# Altium integrated library Diodes - TVS.IntLib: 5379 symbols (part 98 of 122)
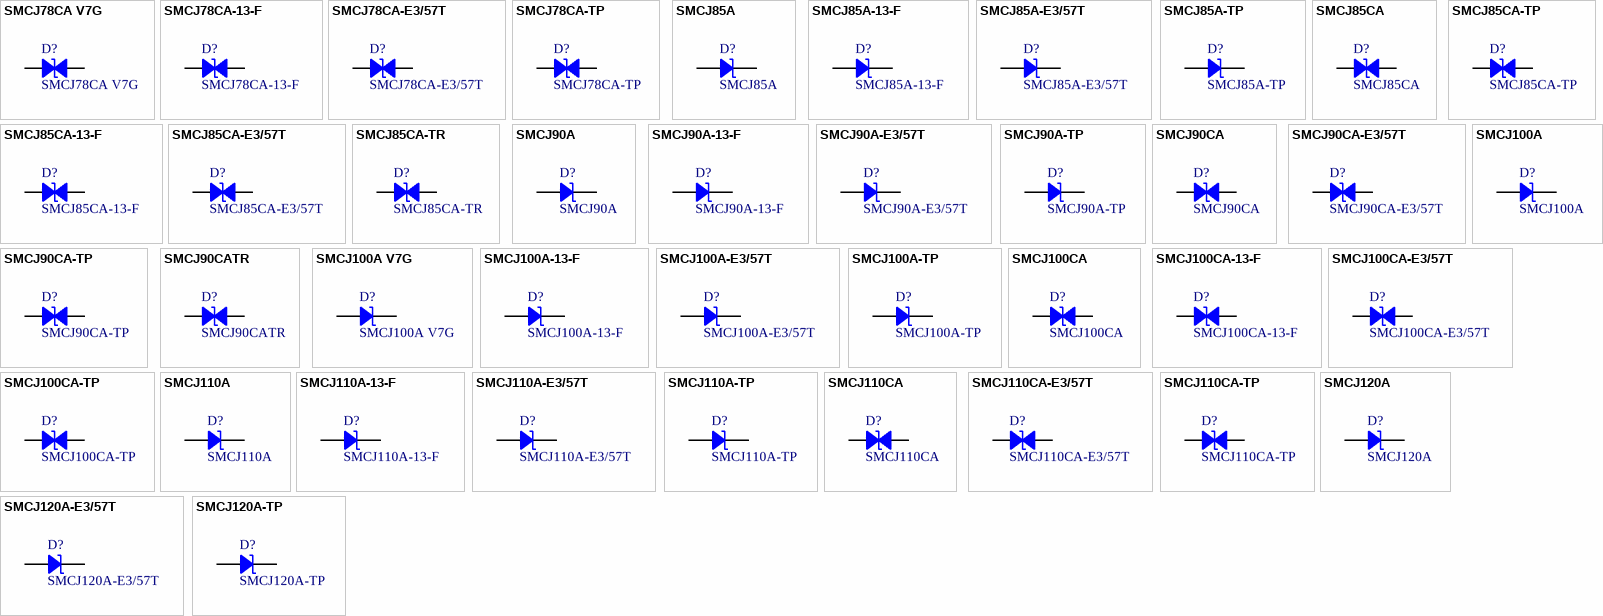
[diagram p231: symbols SMCJ78CA V7G to SMCJ120A-TP]

## SMCJ100A V7G
designator D?
TVS DIODE 100V 162V DO214AB; Manufacturer: Taiwan Semiconductor Corporation; Current - Peak Pulse (10/1000µs): 9.7A; Power Line Protection: No; Power - Peak Pulse: 1500W (1.5kW); Type: Zener; Unidirectional Channels: 1; Voltage - Breakdown (Min): 111V; Part Number: SMCJ100A V7G; Applications: Telecom; ComponentLink1Description: Datasheet; ComponentLink1URL: https://www.taiwansemi.com/products/datasheet/SMCJ%20SERIES_Q1812.pdf; ComponentLink2Description: DigiKey Link; ComponentLink2URL: http://digikey.com/product-detail/en/taiwan-semiconductor-corporation/SMCJ100A-V7G/SMCJ100AV7GCT-ND/7944443; LastUpdated: 9/2/2020 1:20:05 AM; Lifecycle Status: Active; Minimum Order: 1; Mounting Type: Surface Mount; Operating Temperature: -55°C ~ 150°C (TJ); Package / Case: DO-214AB, SMC; Packaging: TapeAndReel; PartId: 6891; Part Status: Active; Price: 0.41; Series: SMCJ; Supplier 1: DigiKey; Supplier Part Number 1: SMCJ100AV7GCT-ND; Supplier Device Package: DO-214AB (SMC); Voltage - Clamping (Max) @ Ipp: 162V; Voltage - Reverse Standoff (Typ): 100V
footprint DO214AB SMC
pins: 1, 2

## SMCJ100A-13-F
designator D?
TVS DIODE 100V 162V SMC; Manufacturer: Diodes Incorporated; Current - Peak Pulse (10/1000µs): 9.3A; Power Line Protection: No; Power - Peak Pulse: 1500W (1.5kW); Type: Zener; Unidirectional Channels: 1; Voltage - Breakdown (Min): 111V; Part Number: SMCJ100A-13-F; Applications: General Purpose; ComponentLink1Description: Datasheet; ComponentLink1URL: https://www.diodes.com/assets/Datasheets/ds19003.pdf; ComponentLink2Description: DigiKey Link; ComponentLink2URL: http://digikey.com/product-detail/en/diodes-incorporated/SMCJ100A-13-F/SMCJ100A-FDICT-ND/765472; LastUpdated: 9/2/2020 1:20:08 AM; Lifecycle Status: Active; Minimum Order: 1; Mounting Type: Surface Mount; Operating Temperature: -55°C ~ 150°C (TJ); Package / Case: DO-214AB, SMC; Packaging: TapeAndReel; PartId: 7254; Part Status: Active; Price: 0.27; Series: -; Supplier 1: DigiKey; Supplier Part Number 1: SMCJ100A-FDICT-ND; Supplier Device Package: SMC; Voltage - Clamping (Max) @ Ipp: 162V; Voltage - Reverse Standoff (Typ): 100V
footprint DO214AB SMC
pins: 1, 2

## SMCJ100A-E3/57T
designator D?
TVS DIODE 100V 162V DO214AB; Manufacturer: Vishay Semiconductor Diodes Division; Current - Peak Pulse (10/1000µs): 9.3A; Power Line Protection: No; Power - Peak Pulse: 1500W (1.5kW); Type: Zener; Unidirectional Channels: 1; Voltage - Breakdown (Min): 111V; Part Number: SMCJ100A-E3/57T; Applications: General Purpose; ComponentLink1Description: Datasheet; ComponentLink1URL: http://www.vishay.com/docs/88394/smcj.pdf; ComponentLink2Description: DigiKey Link; ComponentLink2URL: http://digikey.com/product-detail/en/vishay-semiconductor-diodes-division/SMCJ100A-E3-57T/SMCJ100A-E3-57TGICT-ND/3306574; LastUpdated: 9/2/2020 1:20:02 AM; Lifecycle Status: Active; Minimum Order: 1; Mounting Type: Surface Mount; Operating Temperature: -55°C ~ 150°C (TJ); Package / Case: DO-214AB, SMC; Packaging: TapeAndReel; PartId: 6572; Part Status: Active; Price: 0.25; Series: TransZorb®; Supplier 1: DigiKey; Supplier Part Number 1: SMCJ100A-E3/57TGICT-ND; Supplier Device Package: DO-214AB (SMCJ); Voltage - Clamping (Max) @ Ipp: 162V; Voltage - Reverse Standoff (Typ): 100V
footprint DO214AB SMC
pins: 1, 2

## SMCJ100A-TP
designator D?
TVS DIODE 100V 162V DO214AB; Manufacturer: Micro Commercial Co; Current - Peak Pulse (10/1000µs): 9.3A; Power Line Protection: No; Power - Peak Pulse: 1500W (1.5kW); Type: Zener; Unidirectional Channels: 1; Voltage - Breakdown (Min): 111V; Part Number: SMCJ100A-TP; Applications: General Purpose; ComponentLink1Description: Datasheet; ComponentLink1URL: https://www.mccsemi.com/pdf/Products/SMCJ5.0~SMCJ440CA(DO-214AB).pdf; ComponentLink2Description: DigiKey Link; ComponentLink2URL: http://digikey.com/product-detail/en/micro-commercial-co/SMCJ100A-TP/SMCJ100A-TPMSCT-ND/1200799; LastUpdated: 9/2/2020 1:19:59 AM; Lifecycle Status: Active; Minimum Order: 1; Mounting Type: Surface Mount; Operating Temperature: -55°C ~ 175°C (TJ); Package / Case: DO-214AB, SMC; Packaging: TapeAndReel; PartId: 6311; Part Status: Active; Price: 0.20; Series: -; Supplier 1: DigiKey; Supplier Part Number 1: SMCJ100A-TPMSCT-ND; Supplier Device Package: DO-214AB (SMC); Voltage - Clamping (Max) @ Ipp: 162V; Voltage - Reverse Standoff (Typ): 100V
footprint DO214AB SMC
pins: 1, 2

## SMCJ100CA
designator D?
TVS DIODE 100V 162V SMC; Manufacturer: Bourns Inc.; Bidirectional Channels: 1; Current - Peak Pulse (10/1000µs): 9.3A; Power Line Protection: No; Power - Peak Pulse: 1500W (1.5kW); Type: Zener; Voltage - Breakdown (Min): 111V; Part Number: SMCJ100CA; Applications: General Purpose; ComponentLink1Description: Datasheet; ComponentLink1URL: https://www.bourns.com/docs/Product-Datasheets/SMCJ.pdf; ComponentLink2Description: DigiKey Link; ComponentLink2URL: http://digikey.com/product-detail/en/bourns-inc/SMCJ100CA/SMCJ100CABCT-ND/2253606; LastUpdated: 9/2/2020 1:28:02 AM; Lifecycle Status: Active; Minimum Order: 1; Mounting Type: Surface Mount; Operating Temperature: -55°C ~ 150°C (TJ); Package / Case: DO-214AB, SMC; Packaging: TapeAndReel; PartId: 8038; Part Status: Active; Price: 0.27; Series: SMCJ; Supplier 1: DigiKey; Supplier Part Number 1: SMCJ100CABCT-ND; Supplier Device Package: SMC (DO-214AB); Voltage - Clamping (Max) @ Ipp: 162V; Voltage - Reverse Standoff (Typ): 100V
footprint DO214AB SMC
pins: 1, 2

## SMCJ100CA-13-F
designator D?
TVS DIODE 100V 162V SMC; Manufacturer: Diodes Incorporated; Bidirectional Channels: 1; Current - Peak Pulse (10/1000µs): 9.3A; Power Line Protection: No; Power - Peak Pulse: 1500W (1.5kW); Type: Zener; Voltage - Breakdown (Min): 111V; Part Number: SMCJ100CA-13-F; Applications: General Purpose; ComponentLink1Description: Datasheet; ComponentLink1URL: https://www.diodes.com/assets/Datasheets/ds19003.pdf; ComponentLink2Description: DigiKey Link; ComponentLink2URL: http://digikey.com/product-detail/en/diodes-incorporated/SMCJ100CA-13-F/SMCJ100CA-FDICT-ND/816101; LastUpdated: 9/2/2020 1:28:09 AM; Lifecycle Status: Active; Minimum Order: 1; Mounting Type: Surface Mount; Operating Temperature: -55°C ~ 150°C (TJ); Package / Case: DO-214AB, SMC; Packaging: TapeAndReel; PartId: 8762; Part Status: Active; Price: 0.30; Series: -; Supplier 1: DigiKey; Supplier Part Number 1: SMCJ100CA-FDICT-ND; Supplier Device Package: SMC; Voltage - Clamping (Max) @ Ipp: 162V; Voltage - Reverse Standoff (Typ): 100V
footprint DO214AB SMC
pins: 1, 2

## SMCJ100CA-E3/57T
designator D?
TVS DIODE 100V 162V DO214AB; Manufacturer: Vishay Semiconductor Diodes Division; Bidirectional Channels: 1; Current - Peak Pulse (10/1000µs): 9.3A; Power Line Protection: No; Power - Peak Pulse: 1500W (1.5kW); Type: Zener; Voltage - Breakdown (Min): 111V; Part Number: SMCJ100CA-E3/57T; Applications: General Purpose; ComponentLink1Description: Datasheet; ComponentLink1URL: http://www.vishay.com/docs/88394/smcj.pdf; ComponentLink2Description: DigiKey Link; ComponentLink2URL: http://digikey.com/product-detail/en/vishay-semiconductor-diodes-division/SMCJ100CA-E3-57T/SMCJ100CA-E3-57TGICT-ND/3306575; LastUpdated: 9/2/2020 1:28:06 AM; Lifecycle Status: Active; Minimum Order: 1; Mounting Type: Surface Mount; Operating Temperature: -55°C ~ 150°C (TJ); Package / Case: DO-214AB, SMC; Packaging: TapeAndReel; PartId: 8481; Part Status: Active; Price: 0.30; Series: TransZorb®; Supplier 1: DigiKey; Supplier Part Number 1: SMCJ100CA-E3/57TGICT-ND; Supplier Device Package: DO-214AB (SMCJ); Voltage - Clamping (Max) @ Ipp: 162V; Voltage - Reverse Standoff (Typ): 100V
footprint DO214AB SMC
pins: 1, 2

## SMCJ100CA-TP
designator D?
TVS DIODE 100V 162V DO214AB; Manufacturer: Micro Commercial Co; Bidirectional Channels: 1; Current - Peak Pulse (10/1000µs): 9.3A; Power Line Protection: No; Power - Peak Pulse: 1500W (1.5kW); Type: Zener; Voltage - Breakdown (Min): 111V; Part Number: SMCJ100CA-TP; Applications: General Purpose; ComponentLink1Description: Datasheet; ComponentLink1URL: https://www.mccsemi.com/pdf/Products/SMCJ5.0~SMCJ440CA(DO-214AB).pdf; ComponentLink2Description: DigiKey Link; ComponentLink2URL: http://digikey.com/product-detail/en/micro-commercial-co/SMCJ100CA-TP/SMCJ100CA-TPMSCT-ND/1200800; LastUpdated: 9/2/2020 1:28:08 AM; Lifecycle Status: Active; Minimum Order: 1; Mounting Type: Surface Mount; Operating Temperature: -55°C ~ 175°C (TJ); Package / Case: DO-214AB, SMC; Packaging: TapeAndReel; PartId: 8673; Part Status: Active; Price: 0.21; Series: -; Supplier 1: DigiKey; Supplier Part Number 1: SMCJ100CA-TPMSCT-ND; Supplier Device Package: DO-214AB (SMC); Voltage - Clamping (Max) @ Ipp: 162V; Voltage - Reverse Standoff (Typ): 100V
footprint DO214AB SMC
pins: 1, 2

## SMCJ110A
designator D?
TVS DIODE 110V 177V DO214AB; Manufacturer: Littelfuse Inc.; Current - Peak Pulse (10/1000µs): 8.5A; Power Line Protection: No; Power - Peak Pulse: 1500W (1.5kW); Type: Zener; Unidirectional Channels: 1; Voltage - Breakdown (Min): 122V; Part Number: SMCJ110A; Applications: General Purpose; ComponentLink1Description: Datasheet; ComponentLink1URL: https://www.littelfuse.com/products/tvs-diodes/surface-mount/~/media/electronics/datasheets/tvs_diodes/littelfuse_tvs_diode_smcj_datasheet.pdf.pdf; ComponentLink2Description: DigiKey Link; ComponentLink2URL: http://digikey.com/product-detail/en/littelfuse-inc/SMCJ110A/SMCJ110ALFCT-ND/762646; LastUpdated: 9/2/2020 1:19:59 AM; Lifecycle Status: Active; Minimum Order: 1; Mounting Type: Surface Mount; Operating Temperature: -55°C ~ 150°C (TJ); Package / Case: DO-214AB, SMC; Packaging: TapeAndReel; PartId: 6286; Part Status: Active; Price: 0.21; Series: SMCJ; Supplier 1: DigiKey; Supplier Part Number 1: SMCJ110ALFCT-ND; Supplier Device Package: DO-214AB (SMCJ); Voltage - Clamping (Max) @ Ipp: 177V; Voltage - Reverse Standoff (Typ): 110V
footprint DO214AB SMC
pins: 1, 2

## SMCJ110A-13-F
designator D?
TVS DIODE 110V 177V SMC; Manufacturer: Diodes Incorporated; Current - Peak Pulse (10/1000µs): 8.4A; Power Line Protection: No; Power - Peak Pulse: 1500W (1.5kW); Type: Zener; Unidirectional Channels: 1; Voltage - Breakdown (Min): 122V; Part Number: SMCJ110A-13-F; Applications: General Purpose; ComponentLink1Description: Datasheet; ComponentLink1URL: https://www.diodes.com/assets/Datasheets/ds19003.pdf; ComponentLink2Description: DigiKey Link; ComponentLink2URL: http://digikey.com/product-detail/en/diodes-incorporated/SMCJ110A-13-F/SMCJ110A-FDICT-ND/816102; LastUpdated: 9/2/2020 1:20:05 AM; Lifecycle Status: Active; Minimum Order: 1; Mounting Type: Surface Mount; Operating Temperature: -55°C ~ 150°C (TJ); Package / Case: DO-214AB, SMC; Packaging: TapeAndReel; PartId: 6967; Part Status: Active; Price: 0.27; Series: -; Supplier 1: DigiKey; Supplier Part Number 1: SMCJ110A-FDICT-ND; Supplier Device Package: SMC; Voltage - Clamping (Max) @ Ipp: 177V; Voltage - Reverse Standoff (Typ): 110V
footprint DO214AB SMC
pins: 1, 2

## SMCJ110A-E3/57T
designator D?
TVS DIODE 110V 177V DO214AB; Manufacturer: Vishay Semiconductor Diodes Division; Current - Peak Pulse (10/1000µs): 8.5A; Power Line Protection: No; Power - Peak Pulse: 1500W (1.5kW); Type: Zener; Unidirectional Channels: 1; Voltage - Breakdown (Min): 122V; Part Number: SMCJ110A-E3/57T; Applications: General Purpose; ComponentLink1Description: Datasheet; ComponentLink1URL: http://www.vishay.com/docs/88394/smcj.pdf; ComponentLink2Description: DigiKey Link; ComponentLink2URL: http://digikey.com/product-detail/en/vishay-semiconductor-diodes-division/SMCJ110A-E3-57T/SMCJ110A-E3-57TGICT-ND/3306576; LastUpdated: 9/2/2020 1:20:02 AM; Lifecycle Status: Active; Minimum Order: 1; Mounting Type: Surface Mount; Operating Temperature: -55°C ~ 150°C (TJ); Package / Case: DO-214AB, SMC; Packaging: TapeAndReel; PartId: 6573; Part Status: Active; Price: 0.25; Series: TransZorb®; Supplier 1: DigiKey; Supplier Part Number 1: SMCJ110A-E3/57TGICT-ND; Supplier Device Package: DO-214AB (SMCJ); Voltage - Clamping (Max) @ Ipp: 177V; Voltage - Reverse Standoff (Typ): 110V
footprint DO214AB SMC
pins: 1, 2

## SMCJ110A-TP
designator D?
TVS DIODE 110V 177V DO214AB; Manufacturer: Micro Commercial Co; Current - Peak Pulse (10/1000µs): 8.5A; Power Line Protection: No; Power - Peak Pulse: 1500W (1.5kW); Type: Zener; Unidirectional Channels: 1; Voltage - Breakdown (Min): 122V; Part Number: SMCJ110A-TP; Applications: General Purpose; ComponentLink1Description: Datasheet; ComponentLink1URL: https://www.mccsemi.com/pdf/Products/SMCJ5.0~SMCJ440CA(DO-214AB).pdf; ComponentLink2Description: DigiKey Link; ComponentLink2URL: http://digikey.com/product-detail/en/micro-commercial-co/SMCJ110A-TP/SMCJ110A-TPMSCT-ND/1200801; LastUpdated: 9/2/2020 1:19:59 AM; Lifecycle Status: Active; Minimum Order: 1; Mounting Type: Surface Mount; Operating Temperature: -55°C ~ 175°C (TJ); Package / Case: DO-214AB, SMC; Packaging: TapeAndReel; PartId: 6310; Part Status: Active; Price: 0.20; Series: -; Supplier 1: DigiKey; Supplier Part Number 1: SMCJ110A-TPMSCT-ND; Supplier Device Package: DO-214AB (SMC); Voltage - Clamping (Max) @ Ipp: 177V; Voltage - Reverse Standoff (Typ): 110V
footprint DO214AB SMC
pins: 1, 2

## SMCJ110CA
designator D?
TVS DIODE 110V 177V DO214AB; Manufacturer: Littelfuse Inc.; Bidirectional Channels: 1; Current - Peak Pulse (10/1000µs): 8.5A; Power Line Protection: No; Power - Peak Pulse: 1500W (1.5kW); Type: Zener; Voltage - Breakdown (Min): 122V; Part Number: SMCJ110CA; Applications: General Purpose; ComponentLink1Description: Datasheet; ComponentLink1URL: https://www.littelfuse.com/products/tvs-diodes/surface-mount/~/media/electronics/datasheets/tvs_diodes/littelfuse_tvs_diode_smcj_datasheet.pdf.pdf; ComponentLink2Description: DigiKey Link; ComponentLink2URL: http://digikey.com/product-detail/en/littelfuse-inc/SMCJ110CA/SMCJ110CALFCT-ND/762647; LastUpdated: 9/2/2020 1:28:06 AM; Lifecycle Status: Active; Minimum Order: 1; Mounting Type: Surface Mount; Operating Temperature: -55°C ~ 150°C (TJ); Package / Case: DO-214AB, SMC; Packaging: TapeAndReel; PartId: 8494; Part Status: Active; Price: 0.23; Series: SMCJ; Supplier 1: DigiKey; Supplier Part Number 1: SMCJ110CALFCT-ND; Supplier Device Package: DO-214AB (SMCJ); Voltage - Clamping (Max) @ Ipp: 177V; Voltage - Reverse Standoff (Typ): 110V
footprint DO214AB SMC
pins: 1, 2

## SMCJ110CA-E3/57T
designator D?
TVS DIODE 110V 177V DO214AB; Manufacturer: Vishay Semiconductor Diodes Division; Bidirectional Channels: 1; Current - Peak Pulse (10/1000µs): 8.5A; Power Line Protection: No; Power - Peak Pulse: 1500W (1.5kW); Type: Zener; Voltage - Breakdown (Min): 122V; Part Number: SMCJ110CA-E3/57T; Applications: General Purpose; ComponentLink1Description: Datasheet; ComponentLink1URL: http://www.vishay.com/docs/88394/smcj.pdf; ComponentLink2Description: DigiKey Link; ComponentLink2URL: http://digikey.com/product-detail/en/vishay-semiconductor-diodes-division/SMCJ110CA-E3-57T/SMCJ110CA-E3-57TGICT-ND/2413475; LastUpdated: 9/2/2020 1:28:04 AM; Lifecycle Status: Active; Minimum Order: 1; Mounting Type: Surface Mount; Operating Temperature: -55°C ~ 150°C (TJ); Package / Case: DO-214AB, SMC; Packaging: TapeAndReel; PartId: 8179; Part Status: Active; Price: 0.30; Series: TransZorb®; Supplier 1: DigiKey; Supplier Part Number 1: SMCJ110CA-E3/57TGICT-ND; Supplier Device Package: DO-214AB (SMCJ); Voltage - Clamping (Max) @ Ipp: 177V; Voltage - Reverse Standoff (Typ): 110V
footprint DO214AB SMC
pins: 1, 2

## SMCJ110CA-TP
designator D?
TVS DIODE 110V 177V DO214AB; Manufacturer: Micro Commercial Co; Bidirectional Channels: 1; Current - Peak Pulse (10/1000µs): 8.5A; Power Line Protection: No; Power - Peak Pulse: 1500W (1.5kW); Type: Zener; Voltage - Breakdown (Min): 122V; Part Number: SMCJ110CA-TP; Applications: General Purpose; ComponentLink1Description: Datasheet; ComponentLink1URL: https://www.mccsemi.com/pdf/Products/SMCJ5.0~SMCJ440CA(DO-214AB).pdf; ComponentLink2Description: DigiKey Link; ComponentLink2URL: http://digikey.com/product-detail/en/micro-commercial-co/SMCJ110CA-TP/SMCJ110CA-TPMSCT-ND/1200802; LastUpdated: 9/2/2020 1:28:02 AM; Lifecycle Status: Active; Minimum Order: 1; Mounting Type: Surface Mount; Operating Temperature: -55°C ~ 175°C (TJ); Package / Case: DO-214AB, SMC; Packaging: TapeAndReel; PartId: 7971; Part Status: Active; Price: 0.21; Series: -; Supplier 1: DigiKey; Supplier Part Number 1: SMCJ110CA-TPMSCT-ND; Supplier Device Package: DO-214AB (SMC); Voltage - Clamping (Max) @ Ipp: 177V; Voltage - Reverse Standoff (Typ): 110V
footprint DO214AB SMC
pins: 1, 2

## SMCJ120A
designator D?
TVS DIODE 120V 193V SMC; Manufacturer: Taiwan Semiconductor Corporation; Current - Peak Pulse (10/1000µs): 7.8A; Power Line Protection: No; Power - Peak Pulse: 1500W (1.5kW); Type: Zener; Unidirectional Channels: 1; Voltage - Breakdown (Min): 133V; Part Number: SMCJ120A; Applications: General Purpose; ComponentLink1Description: Datasheet; ComponentLink1URL: https://www.taiwansemi.com/products/datasheet/SMCJ%20SERIES_Q1812.pdf; ComponentLink2Description: DigiKey Link; ComponentLink2URL: http://digikey.com/product-detail/en/taiwan-semiconductor-corporation/SMCJ120A/SMCJ120AFSCT-ND/4744709; LastUpdated: 9/2/2020 1:20:02 AM; Lifecycle Status: Active; Minimum Order: 1; Mounting Type: Surface Mount; Package / Case: DO-214AB, SMC; Packaging: TapeAndReel; PartId: 6631; Part Status: Active; Price: 0.23; Series: -; Supplier 1: DigiKey; Supplier Part Number 1: SMCJ120AFSCT-ND; Supplier Device Package: SMC (DO-214AB); Voltage - Clamping (Max) @ Ipp: 193V; Voltage - Reverse Standoff (Typ): 120V
footprint DO214AB SMC
pins: 1, 2

## SMCJ120A-E3/57T
designator D?
TVS DIODE 120V 193V DO214AB; Manufacturer: Vishay Semiconductor Diodes Division; Current - Peak Pulse (10/1000µs): 7.8A; Power Line Protection: No; Power - Peak Pulse: 1500W (1.5kW); Type: Zener; Unidirectional Channels: 1; Voltage - Breakdown (Min): 133V; Part Number: SMCJ120A-E3/57T; Applications: General Purpose; ComponentLink1Description: Datasheet; ComponentLink1URL: http://www.vishay.com/docs/88394/smcj.pdf; ComponentLink2Description: DigiKey Link; ComponentLink2URL: http://digikey.com/product-detail/en/vishay-semiconductor-diodes-division/SMCJ120A-E3-57T/SMCJ120A-E3-57TGICT-ND/3306578; LastUpdated: 9/2/2020 1:20:02 AM; Lifecycle Status: Active; Minimum Order: 1; Mounting Type: Surface Mount; Operating Temperature: -55°C ~ 150°C (TJ); Package / Case: DO-214AB, SMC; Packaging: TapeAndReel; PartId: 6578; Part Status: Active; Price: 0.25; Series: TransZorb®; Supplier 1: DigiKey; Supplier Part Number 1: SMCJ120A-E3/57TGICT-ND; Supplier Device Package: DO-214AB (SMCJ); Voltage - Clamping (Max) @ Ipp: 193V; Voltage - Reverse Standoff (Typ): 120V
footprint DO214AB SMC
pins: 1, 2

## SMCJ120A-TP
designator D?
TVS DIODE 120V 193V DO214AB; Manufacturer: Micro Commercial Co; Current - Peak Pulse (10/1000µs): 7.8A; Power Line Protection: No; Power - Peak Pulse: 1500W (1.5kW); Type: Zener; Unidirectional Channels: 1; Voltage - Breakdown (Min): 133V; Part Number: SMCJ120A-TP; Applications: General Purpose; ComponentLink1Description: Datasheet; ComponentLink1URL: https://www.mccsemi.com/pdf/Products/SMCJ5.0~SMCJ440CA(DO-214AB).pdf; ComponentLink2Description: DigiKey Link; ComponentLink2URL: http://digikey.com/product-detail/en/micro-commercial-co/SMCJ120A-TP/SMCJ120A-TPMSCT-ND/1200803; LastUpdated: 9/2/2020 1:19:59 AM; Lifecycle Status: Active; Minimum Order: 1; Mounting Type: Surface Mount; Operating Temperature: -55°C ~ 175°C (TJ); Package / Case: DO-214AB, SMC; Packaging: TapeAndReel; PartId: 6309; Part Status: Active; Price: 0.20; Series: -; Supplier 1: DigiKey; Supplier Part Number 1: SMCJ120A-TPMSCT-ND; Supplier Device Package: DO-214AB (SMC); Voltage - Clamping (Max) @ Ipp: 193V; Voltage - Reverse Standoff (Typ): 120V
footprint DO214AB SMC
pins: 1, 2

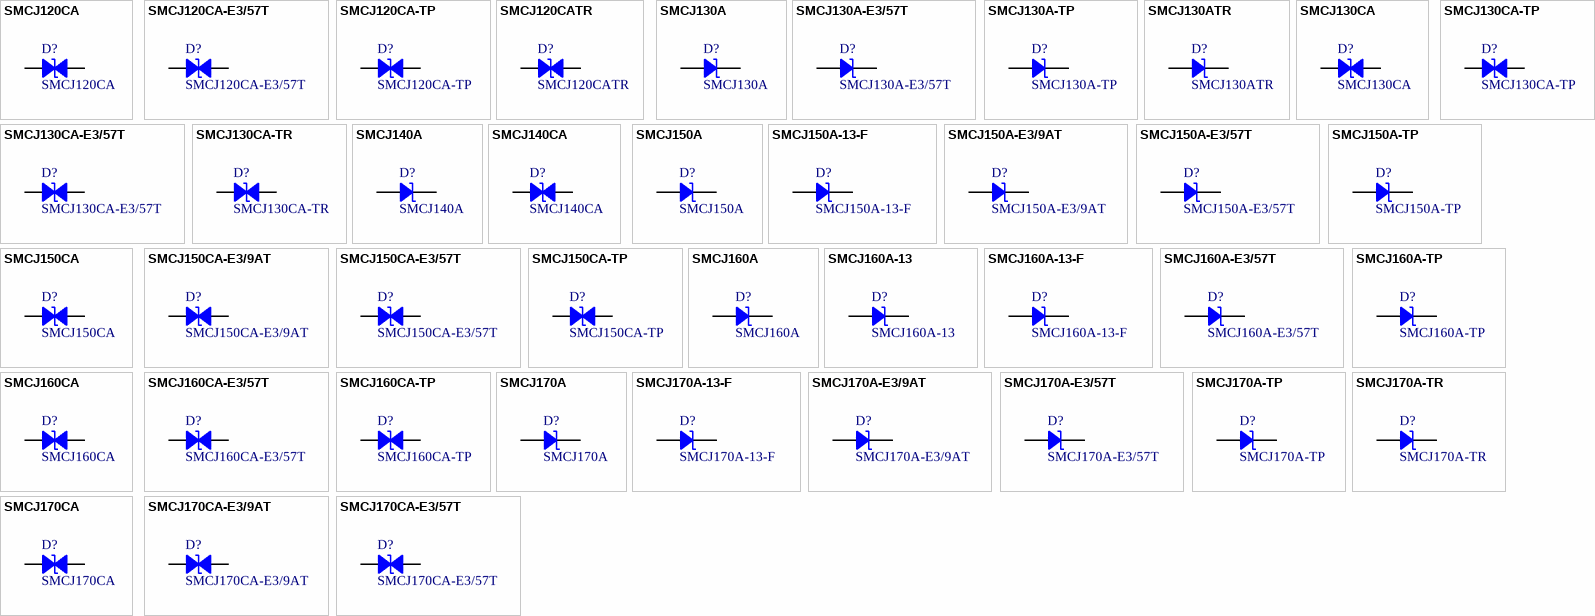
[diagram p108: symbols SMCJ120CA to SMCJ170CA-E3/57T]

## SMCJ120CA
designator D?
TVS DIODE 120V 193V SMC; Manufacturer: Bourns Inc.; Bidirectional Channels: 1; Current - Peak Pulse (10/1000µs): 7.9A; Power Line Protection: No; Power - Peak Pulse: 1500W (1.5kW); Type: Zener; Voltage - Breakdown (Min): 133V; Part Number: SMCJ120CA; Applications: General Purpose; ComponentLink1Description: Datasheet; ComponentLink1URL: https://www.bourns.com/docs/Product-Datasheets/SMCJ.pdf; ComponentLink2Description: DigiKey Link; ComponentLink2URL: http://digikey.com/product-detail/en/bourns-inc/SMCJ120CA/SMCJ120CABCT-ND/2253608; LastUpdated: 9/2/2020 1:28:04 AM; Lifecycle Status: Active; Minimum Order: 1; Mounting Type: Surface Mount; Operating Temperature: -55°C ~ 150°C (TJ); Package / Case: DO-214AB, SMC; Packaging: TapeAndReel; PartId: 8168; Part Status: Active; Price: 0.23; Series: SMCJ; Supplier 1: DigiKey; Supplier Part Number 1: SMCJ120CABCT-ND; Supplier Device Package: SMC (DO-214AB); Voltage - Clamping (Max) @ Ipp: 193V; Voltage - Reverse Standoff (Typ): 120V
footprint DO214AB SMC
pins: 1, 2

## SMCJ120CA-E3/57T
designator D?
TVS DIODE 120V 193V DO214AB; Manufacturer: Vishay Semiconductor Diodes Division; Bidirectional Channels: 1; Current - Peak Pulse (10/1000µs): 7.8A; Power Line Protection: No; Power - Peak Pulse: 1500W (1.5kW); Type: Zener; Voltage - Breakdown (Min): 133V; Part Number: SMCJ120CA-E3/57T; Applications: General Purpose; ComponentLink1Description: Datasheet; ComponentLink1URL: http://www.vishay.com/docs/88394/smcj.pdf; ComponentLink2Description: DigiKey Link; ComponentLink2URL: http://digikey.com/product-detail/en/vishay-semiconductor-diodes-division/SMCJ120CA-E3-57T/SMCJ120CA-E3-57TGICT-ND/3306579; LastUpdated: 9/2/2020 1:28:09 AM; Lifecycle Status: Active; Minimum Order: 1; Mounting Type: Surface Mount; Operating Temperature: -55°C ~ 150°C (TJ); Package / Case: DO-214AB, SMC; Packaging: TapeAndReel; PartId: 8756; Part Status: Active; Price: 0.30; Series: TransZorb®; Supplier 1: DigiKey; Supplier Part Number 1: SMCJ120CA-E3/57TGICT-ND; Supplier Device Package: DO-214AB (SMCJ); Voltage - Clamping (Max) @ Ipp: 193V; Voltage - Reverse Standoff (Typ): 120V
footprint DO214AB SMC
pins: 1, 2

## SMCJ120CA-TP
designator D?
TVS DIODE 120V 193V DO214AB; Manufacturer: Micro Commercial Co; Bidirectional Channels: 1; Current - Peak Pulse (10/1000µs): 7.8A; Power Line Protection: No; Power - Peak Pulse: 1500W (1.5kW); Type: Zener; Voltage - Breakdown (Min): 133V; Part Number: SMCJ120CA-TP; Applications: General Purpose; ComponentLink1Description: Datasheet; ComponentLink1URL: https://www.mccsemi.com/pdf/Products/SMCJ5.0~SMCJ440CA(DO-214AB).pdf; ComponentLink2Description: DigiKey Link; ComponentLink2URL: http://digikey.com/product-detail/en/micro-commercial-co/SMCJ120CA-TP/SMCJ120CA-TPMSCT-ND/1200804; LastUpdated: 9/2/2020 1:28:02 AM; Lifecycle Status: Active; Minimum Order: 1; Mounting Type: Surface Mount; Operating Temperature: -55°C ~ 175°C (TJ); Package / Case: DO-214AB, SMC; Packaging: TapeAndReel; PartId: 7970; Part Status: Active; Price: 0.21; Series: -; Supplier 1: DigiKey; Supplier Part Number 1: SMCJ120CA-TPMSCT-ND; Supplier Device Package: DO-214AB (SMC); Voltage - Clamping (Max) @ Ipp: 193V; Voltage - Reverse Standoff (Typ): 120V
footprint DO214AB SMC
pins: 1, 2

## SMCJ120CATR
designator D?
TVS DIODE 120V 193V SMC; Manufacturer: SMC Diode Solutions; Bidirectional Channels: 1; Current - Peak Pulse (10/1000µs): 7.9A; Power Line Protection: No; Power - Peak Pulse: 1500W (1.5kW); Type: Zener; Voltage - Breakdown (Min): 133V; Part Number: SMCJ120CATR; Applications: General Purpose; ComponentLink1Description: Datasheet; ComponentLink1URL: http://www.smc-diodes.com/propdf/SMCJ%20SERIES%20N0002%20REV.C.pdf; ComponentLink2Description: DigiKey Link; ComponentLink2URL: http://digikey.com/product-detail/en/smc-diode-solutions/SMCJ120CATR/1655-1749-1-ND/6674458; LastUpdated: 9/2/2020 1:28:06 AM; Lifecycle Status: Active; Minimum Order: 1; Mounting Type: Surface Mount; Operating Temperature: -55°C ~ 150°C (TJ); Package / Case: DO-214AB, SMC; Packaging: TapeAndReel; PartId: 8429; Part Status: Active; Price: 0.15; Series: -; Supplier 1: DigiKey; Supplier Part Number 1: 1655-1749-1-ND; Supplier Device Package: SMC (DO-214AB); Voltage - Clamping (Max) @ Ipp: 193V; Voltage - Reverse Standoff (Typ): 120V
footprint DO214AB SMC
pins: 1, 2

## SMCJ130A
designator D?
TVS DIODE 130V 209V SMC; Manufacturer: Bourns Inc.; Current - Peak Pulse (10/1000µs): 7.2A; Power Line Protection: No; Power - Peak Pulse: 1500W (1.5kW); Type: Zener; Unidirectional Channels: 1; Voltage - Breakdown (Min): 144V; Part Number: SMCJ130A; Applications: General Purpose; ComponentLink1Description: Datasheet; ComponentLink1URL: https://www.bourns.com/docs/Product-Datasheets/SMCJ.pdf; ComponentLink2Description: DigiKey Link; ComponentLink2URL: http://digikey.com/product-detail/en/bourns-inc/SMCJ130A/SMCJ130ABCT-ND/2254113; LastUpdated: 9/2/2020 1:20:03 AM; Lifecycle Status: Active; Minimum Order: 1; Mounting Type: Surface Mount; Operating Temperature: -55°C ~ 150°C (TJ); Package / Case: DO-214AB, SMC; Packaging: TapeAndReel; PartId: 6680; Part Status: Active; Price: 0.22; Series: SMCJ; Supplier 1: DigiKey; Supplier Part Number 1: SMCJ130ABCT-ND; Supplier Device Package: SMC (DO-214AB); Voltage - Clamping (Max) @ Ipp: 209V; Voltage - Reverse Standoff (Typ): 130V
footprint DO214AB SMC
pins: 1, 2

## SMCJ130A-E3/57T
designator D?
TVS DIODE 130V 209V DO214AB; Manufacturer: Vishay Semiconductor Diodes Division; Current - Peak Pulse (10/1000µs): 7.2A; Power Line Protection: No; Power - Peak Pulse: 1500W (1.5kW); Type: Zener; Unidirectional Channels: 1; Voltage - Breakdown (Min): 144V; Part Number: SMCJ130A-E3/57T; Applications: General Purpose; ComponentLink1Description: Datasheet; ComponentLink1URL: http://www.vishay.com/docs/88394/smcj.pdf; ComponentLink2Description: DigiKey Link; ComponentLink2URL: http://digikey.com/product-detail/en/vishay-semiconductor-diodes-division/SMCJ130A-E3-57T/SMCJ130A-E3-57TGICT-ND/3306580; LastUpdated: 9/2/2020 1:20:02 AM; Lifecycle Status: Active; Minimum Order: 1; Mounting Type: Surface Mount; Operating Temperature: -55°C ~ 150°C (TJ); Package / Case: DO-214AB, SMC; Packaging: TapeAndReel; PartId: 6563; Part Status: Active; Price: 0.25; Series: TransZorb®; Supplier 1: DigiKey; Supplier Part Number 1: SMCJ130A-E3/57TGICT-ND; Supplier Device Package: DO-214AB (SMCJ); Voltage - Clamping (Max) @ Ipp: 209V; Voltage - Reverse Standoff (Typ): 130V
footprint DO214AB SMC
pins: 1, 2

## SMCJ130A-TP
designator D?
TVS DIODE 130V 209V DO214AB; Manufacturer: Micro Commercial Co; Current - Peak Pulse (10/1000µs): 7.2A; Power Line Protection: No; Power - Peak Pulse: 1500W (1.5kW); Type: Zener; Unidirectional Channels: 1; Voltage - Breakdown (Min): 144V; Part Number: SMCJ130A-TP; Applications: General Purpose; ComponentLink1Description: Datasheet; ComponentLink1URL: https://www.mccsemi.com/pdf/Products/SMCJ5.0~SMCJ440CA(DO-214AB).pdf; ComponentLink2Description: DigiKey Link; ComponentLink2URL: http://digikey.com/product-detail/en/micro-commercial-co/SMCJ130A-TP/SMCJ130A-TPMSCT-ND/1200805; LastUpdated: 9/2/2020 1:20:03 AM; Lifecycle Status: Active; Minimum Order: 1; Mounting Type: Surface Mount; Operating Temperature: -55°C ~ 175°C (TJ); Package / Case: DO-214AB, SMC; Packaging: TapeAndReel; PartId: 6713; Part Status: Active; Price: 0.20; Series: -; Supplier 1: DigiKey; Supplier Part Number 1: SMCJ130A-TPMSCT-ND; Supplier Device Package: DO-214AB (SMC); Voltage - Clamping (Max) @ Ipp: 209V; Voltage - Reverse Standoff (Typ): 130V
footprint DO214AB SMC
pins: 1, 2

## SMCJ130ATR
designator D?
TVS DIODE 130V 209V SMC; Manufacturer: SMC Diode Solutions; Current - Peak Pulse (10/1000µs): 7.2A; Power Line Protection: No; Power - Peak Pulse: 1500W (1.5kW); Type: Zener; Unidirectional Channels: 1; Voltage - Breakdown (Min): 144V; Part Number: SMCJ130ATR; Applications: General Purpose; ComponentLink1Description: Datasheet; ComponentLink1URL: http://www.smc-diodes.com/propdf/SMCJ%20SERIES%20N0002%20REV.C.pdf; ComponentLink2Description: DigiKey Link; ComponentLink2URL: http://digikey.com/product-detail/en/smc-diode-solutions/SMCJ130ATR/1655-1750-1-ND/6674459; LastUpdated: 9/2/2020 1:20:05 AM; Lifecycle Status: Active; Minimum Order: 1; Mounting Type: Surface Mount; Operating Temperature: -55°C ~ 150°C (TJ); Package / Case: DO-214AB, SMC; Packaging: TapeAndReel; PartId: 6894; Part Status: Active; Price: 0.15; Series: -; Supplier 1: DigiKey; Supplier Part Number 1: 1655-1750-1-ND; Supplier Device Package: SMC (DO-214AB); Voltage - Clamping (Max) @ Ipp: 209V; Voltage - Reverse Standoff (Typ): 130V
footprint DO214AB SMC
pins: 1, 2

## SMCJ130CA
designator D?
TVS DIODE 130V 209V SMC; Manufacturer: Bourns Inc.; Bidirectional Channels: 1; Current - Peak Pulse (10/1000µs): 7.2A; Power Line Protection: No; Power - Peak Pulse: 1500W (1.5kW); Type: Zener; Voltage - Breakdown (Min): 144V; Part Number: SMCJ130CA; Applications: General Purpose; ComponentLink1Description: Datasheet; ComponentLink1URL: https://www.bourns.com/docs/Product-Datasheets/SMCJ.pdf; ComponentLink2Description: DigiKey Link; ComponentLink2URL: http://digikey.com/product-detail/en/bourns-inc/SMCJ130CA/SMCJ130CABCT-ND/2253609; LastUpdated: 9/2/2020 1:28:03 AM; Lifecycle Status: Active; Minimum Order: 1; Mounting Type: Surface Mount; Operating Temperature: -55°C ~ 150°C (TJ); Package / Case: DO-214AB, SMC; Packaging: TapeAndReel; PartId: 8124; Part Status: Active; Price: 0.23; Series: SMCJ; Supplier 1: DigiKey; Supplier Part Number 1: SMCJ130CABCT-ND; Supplier Device Package: SMC (DO-214AB); Voltage - Clamping (Max) @ Ipp: 209V; Voltage - Reverse Standoff (Typ): 130V
footprint DO214AB SMC
pins: 1, 2

## SMCJ130CA-E3/57T
designator D?
TVS DIODE 130V 209V DO214AB; Manufacturer: Vishay Semiconductor Diodes Division; Bidirectional Channels: 1; Current - Peak Pulse (10/1000µs): 7.2A; Power Line Protection: No; Power - Peak Pulse: 1500W (1.5kW); Type: Zener; Voltage - Breakdown (Min): 144V; Part Number: SMCJ130CA-E3/57T; Applications: General Purpose; ComponentLink1Description: Datasheet; ComponentLink1URL: http://www.vishay.com/docs/88394/smcj.pdf; ComponentLink2Description: DigiKey Link; ComponentLink2URL: http://digikey.com/product-detail/en/vishay-semiconductor-diodes-division/SMCJ130CA-E3-57T/SMCJ130CA-E3-57TGICT-ND/3306581; LastUpdated: 9/2/2020 1:28:04 AM; Lifecycle Status: Active; Minimum Order: 1; Mounting Type: Surface Mount; Operating Temperature: -55°C ~ 150°C (TJ); Package / Case: DO-214AB, SMC; Packaging: TapeAndReel; PartId: 8182; Part Status: Active; Price: 0.30; Series: TransZorb®; Supplier 1: DigiKey; Supplier Part Number 1: SMCJ130CA-E3/57TGICT-ND; Supplier Device Package: DO-214AB (SMCJ); Voltage - Clamping (Max) @ Ipp: 209V; Voltage - Reverse Standoff (Typ): 130V
footprint DO214AB SMC
pins: 1, 2

## SMCJ130CA-TP
designator D?
TVS DIODE 130V 209V DO214AB; Manufacturer: Micro Commercial Co; Bidirectional Channels: 1; Current - Peak Pulse (10/1000µs): 7.2A; Power Line Protection: No; Power - Peak Pulse: 1500W (1.5kW); Type: Zener; Voltage - Breakdown (Min): 144V; Part Number: SMCJ130CA-TP; Applications: General Purpose; ComponentLink1Description: Datasheet; ComponentLink1URL: https://www.mccsemi.com/pdf/Products/SMCJ5.0~SMCJ440CA(DO-214AB).pdf; ComponentLink2Description: DigiKey Link; ComponentLink2URL: http://digikey.com/product-detail/en/micro-commercial-co/SMCJ130CA-TP/SMCJ130CA-TPMSCT-ND/1200806; LastUpdated: 9/2/2020 1:28:02 AM; Lifecycle Status: Active; Minimum Order: 1; Mounting Type: Surface Mount; Operating Temperature: -55°C ~ 175°C (TJ); Package / Case: DO-214AB, SMC; Packaging: TapeAndReel; PartId: 7969; Part Status: Active; Price: 0.21; Series: -; Supplier 1: DigiKey; Supplier Part Number 1: SMCJ130CA-TPMSCT-ND; Supplier Device Package: DO-214AB (SMC); Voltage - Clamping (Max) @ Ipp: 209V; Voltage - Reverse Standoff (Typ): 130V
footprint DO214AB SMC
pins: 1, 2

## SMCJ130CA-TR
designator D?
TVS DIODE 130V 265V SMC; Manufacturer: STMicroelectronics; Bidirectional Channels: 1; Current - Peak Pulse (10/1000µs): 38A (8/20µs); Power Line Protection: No; Power - Peak Pulse: 1500W (1.5kW); Type: Zener; Voltage - Breakdown (Min): 144V; Part Number: SMCJ130CA-TR; Applications: General Purpose; ComponentLink1Description: Datasheet; ComponentLink1URL: http://www.st.com/content/ccc/resource/technical/document/datasheet/ed/51/0b/1f/07/5e/42/1e/CD00001367.pdf/files/CD00001367.pdf/jcr:content/translations/en.CD00001367.pdf; ComponentLink2Description: DigiKey Link; ComponentLink2URL: http://digikey.com/product-detail/en/stmicroelectronics/SMCJ130CA-TR/497-16191-1-ND/5764820; LastUpdated: 9/2/2020 1:28:03 AM; Lifecycle Status: Active; Minimum Order: 1; Mounting Type: Surface Mount; Operating Temperature: -55°C ~ 150°C (TJ); Package / Case: DO-214AB, SMC; Packaging: TapeAndReel; PartId: 8069; Part Status: Active; Price: 0.21; Series: SMCJ, TRANSIL™; Supplier 1: DigiKey; Supplier Part Number 1: 497-16191-1-ND; Supplier Device Package: SMC; Voltage - Clamping (Max) @ Ipp: 265V; Voltage - Reverse Standoff (Typ): 130V
footprint DO214AB SMC
pins: 1, 2

## SMCJ140A
designator D?
TVS DIODE 140V 227V DO214AB; Manufacturer: AVX Corporation; Current - Peak Pulse (10/1000µs): 6.6A; Power Line Protection: No; Power - Peak Pulse: 1500W (1.5kW); Type: Zener; Unidirectional Channels: 1; Voltage - Breakdown (Min): 155V; Part Number: SMCJ140A; Applications: General Purpose; ComponentLink1Description: Datasheet; ComponentLink1URL: //media.digikey.com/pdf/Data%20Sheets/AVX%20PDFs/Transient%20Suppression%20Diodes.pdf; ComponentLink2Description: DigiKey Link; ComponentLink2URL: http://digikey.com/product-detail/en/avx-corporation/SMCJ140A/478-7076-1-ND/3340357; LastUpdated: 9/2/2020 1:20:08 AM; Lifecycle Status: Active; Minimum Order: 1; Mounting Type: Surface Mount; Operating Temperature: -55°C ~ 150°C (TJ); Package / Case: DO-214AB, SMC; Packaging: TapeAndReel; PartId: 7215; Part Status: Active; Price: 0.28; Series: -; Supplier 1: DigiKey; Supplier Part Number 1: 478-7076-1-ND; Supplier Device Package: DO-214AB (SMC); Voltage - Clamping (Max) @ Ipp: 227V; Voltage - Reverse Standoff (Typ): 140V
footprint DO214AB SMC
pins: 1, 2

## SMCJ140CA
designator D?
TVS DIODE 140V 227V DO214AB; Manufacturer: AVX Corporation; Bidirectional Channels: 1; Current - Peak Pulse (10/1000µs): 6.6A; Power Line Protection: No; Power - Peak Pulse: 1500W (1.5kW); Type: Zener; Voltage - Breakdown (Min): 155V; Part Number: SMCJ140CA; Applications: General Purpose; ComponentLink1Description: Datasheet; ComponentLink1URL: //media.digikey.com/pdf/Data%20Sheets/AVX%20PDFs/Transient%20Suppression%20Diodes.pdf; ComponentLink2Description: DigiKey Link; ComponentLink2URL: http://digikey.com/product-detail/en/avx-corporation/SMCJ140CA/478-7077-1-ND/3340364; LastUpdated: 9/2/2020 1:28:05 AM; Lifecycle Status: Active; Minimum Order: 1; Mounting Type: Surface Mount; Operating Temperature: -55°C ~ 150°C (TJ); Package / Case: DO-214AB, SMC; Packaging: TapeAndReel; PartId: 8280; Part Status: Active; Price: 0.32; Series: -; Supplier 1: DigiKey; Supplier Part Number 1: 478-7077-1-ND; Supplier Device Package: DO-214AB (SMC); Voltage - Clamping (Max) @ Ipp: 227V; Voltage - Reverse Standoff (Typ): 140V
footprint DO214AB SMC
pins: 1, 2

## SMCJ150A
designator D?
TVS DIODE 150V 243V SMC; Manufacturer: Taiwan Semiconductor Corporation; Current - Peak Pulse (10/1000µs): 6.2A; Power Line Protection: No; Power - Peak Pulse: 1500W (1.5kW); Type: Zener; Unidirectional Channels: 1; Voltage - Breakdown (Min): 167V; Part Number: SMCJ150A; Applications: General Purpose; ComponentLink1Description: Datasheet; ComponentLink1URL: https://www.taiwansemi.com/products/datasheet/SMCJ%20SERIES_Q1812.pdf; ComponentLink2Description: DigiKey Link; ComponentLink2URL: http://digikey.com/product-detail/en/taiwan-semiconductor-corporation/SMCJ150A/SMCJ150AFSCT-ND/3478412; LastUpdated: 9/2/2020 1:20:02 AM; Lifecycle Status: Active; Minimum Order: 1; Mounting Type: Surface Mount; Package / Case: DO-214AB, SMC; Packaging: TapeAndReel; PartId: 6627; Part Status: Active; Price: 0.23; Series: -; Supplier 1: DigiKey; Supplier Part Number 1: SMCJ150AFSCT-ND; Supplier Device Package: SMC (DO-214AB); Voltage - Clamping (Max) @ Ipp: 243V; Voltage - Reverse Standoff (Typ): 150V
footprint DO214AB SMC
pins: 1, 2

## SMCJ150A-13-F
designator D?
TVS DIODE 150V 243V SMC; Manufacturer: Diodes Incorporated; Current - Peak Pulse (10/1000µs): 6.2A; Power Line Protection: No; Power - Peak Pulse: 1500W (1.5kW); Type: Zener; Unidirectional Channels: 1; Voltage - Breakdown (Min): 167V; Part Number: SMCJ150A-13-F; Applications: General Purpose; ComponentLink1Description: Datasheet; ComponentLink1URL: https://www.diodes.com/assets/Datasheets/ds19003.pdf; ComponentLink2Description: DigiKey Link; ComponentLink2URL: http://digikey.com/product-detail/en/diodes-incorporated/SMCJ150A-13-F/SMCJ150A-FDICT-ND/808535; LastUpdated: 9/2/2020 1:20:05 AM; Lifecycle Status: Active; Minimum Order: 1; Mounting Type: Surface Mount; Operating Temperature: -55°C ~ 150°C (TJ); Package / Case: DO-214AB, SMC; Packaging: TapeAndReel; PartId: 6966; Part Status: Active; Price: 0.55; Series: -; Supplier 1: DigiKey; Supplier Part Number 1: SMCJ150A-FDICT-ND; Supplier Device Package: SMC; Voltage - Clamping (Max) @ Ipp: 243V; Voltage - Reverse Standoff (Typ): 150V
footprint DO214AB SMC
pins: 1, 2

## SMCJ150A-E3/9AT
designator D?
TVS DIODE 150V 243V DO214AB; Manufacturer: Vishay Semiconductor Diodes Division; Current - Peak Pulse (10/1000µs): 6.2A; Power Line Protection: No; Power - Peak Pulse: 1500W (1.5kW); Type: Zener; Unidirectional Channels: 1; Voltage - Breakdown (Min): 167V; Part Number: SMCJ150A-E3/9AT; Applications: General Purpose; ComponentLink1Description: Datasheet; ComponentLink1URL: http://www.vishay.com/docs/88394/smcj.pdf; ComponentLink2Description: DigiKey Link; ComponentLink2URL: http://digikey.com/product-detail/en/vishay-semiconductor-diodes-division/SMCJ150A-E3-9AT/SMCJ150A-E3-9ATGICT-ND/7717386; LastUpdated: 9/2/2020 1:20:02 AM; Lifecycle Status: Active; Minimum Order: 1; Mounting Type: Surface Mount; Operating Temperature: -55°C ~ 150°C (TJ); Package / Case: DO-214AB, SMC; Packaging: TapeAndReel; PartId: 6558; Part Status: Active; Price: 0.19; Series: TransZorb®; Supplier 1: DigiKey; Supplier Part Number 1: SMCJ150A-E3/9ATGICT-ND; Supplier Device Package: DO-214AB (SMCJ); Voltage - Clamping (Max) @ Ipp: 243V; Voltage - Reverse Standoff (Typ): 150V
footprint DO214AB SMC
pins: 1, 2

## SMCJ150A-E3/57T
designator D?
TVS DIODE 150V 243V DO214AB; Manufacturer: Vishay Semiconductor Diodes Division; Current - Peak Pulse (10/1000µs): 6.2A; Power Line Protection: No; Power - Peak Pulse: 1500W (1.5kW); Type: Zener; Unidirectional Channels: 1; Voltage - Breakdown (Min): 167V; Part Number: SMCJ150A-E3/57T; Applications: General Purpose; ComponentLink1Description: Datasheet; ComponentLink1URL: http://www.vishay.com/docs/88394/smcj.pdf; ComponentLink2Description: DigiKey Link; ComponentLink2URL: http://digikey.com/product-detail/en/vishay-semiconductor-diodes-division/SMCJ150A-E3-57T/SMCJ150A-E3-57TGICT-ND/3026219; LastUpdated: 9/2/2020 1:20:07 AM; Lifecycle Status: Active; Minimum Order: 1; Mounting Type: Surface Mount; Operating Temperature: -55°C ~ 150°C (TJ); Package / Case: DO-214AB, SMC; Packaging: TapeAndReel; PartId: 7174; Part Status: Active; Price: 0.25; Series: TransZorb®; Supplier 1: DigiKey; Supplier Part Number 1: SMCJ150A-E3/57TGICT-ND; Supplier Device Package: DO-214AB (SMCJ); Voltage - Clamping (Max) @ Ipp: 243V; Voltage - Reverse Standoff (Typ): 150V
footprint DO214AB SMC
pins: 1, 2

## SMCJ150A-TP
designator D?
TVS DIODE 150V 243V DO214AB; Manufacturer: Micro Commercial Co; Current - Peak Pulse (10/1000µs): 6.2A; Power Line Protection: No; Power - Peak Pulse: 1500W (1.5kW); Type: Zener; Unidirectional Channels: 1; Voltage - Breakdown (Min): 167V; Part Number: SMCJ150A-TP; Applications: General Purpose; ComponentLink1Description: Datasheet; ComponentLink1URL: https://www.mccsemi.com/pdf/Products/SMCJ5.0~SMCJ440CA(DO-214AB).pdf; ComponentLink2Description: DigiKey Link; ComponentLink2URL: http://digikey.com/product-detail/en/micro-commercial-co/SMCJ150A-TP/SMCJ150A-TPMSCT-ND/1200807; LastUpdated: 9/2/2020 1:19:59 AM; Lifecycle Status: Active; Minimum Order: 1; Mounting Type: Surface Mount; Operating Temperature: -55°C ~ 175°C (TJ); Package / Case: DO-214AB, SMC; Packaging: TapeAndReel; PartId: 6308; Part Status: Active; Price: 0.20; Series: -; Supplier 1: DigiKey; Supplier Part Number 1: SMCJ150A-TPMSCT-ND; Supplier Device Package: DO-214AB (SMC); Voltage - Clamping (Max) @ Ipp: 243V; Voltage - Reverse Standoff (Typ): 150V
footprint DO214AB SMC
pins: 1, 2

## SMCJ150CA
designator D?
TVS DIODE 150V 243V DO214AB; Manufacturer: Littelfuse Inc.; Bidirectional Channels: 1; Current - Peak Pulse (10/1000µs): 6.2A; Power Line Protection: No; Power - Peak Pulse: 1500W (1.5kW); Type: Zener; Voltage - Breakdown (Min): 167V; Part Number: SMCJ150CA; Applications: General Purpose; ComponentLink1Description: Datasheet; ComponentLink1URL: https://www.littelfuse.com/products/tvs-diodes/surface-mount/~/media/electronics/datasheets/tvs_diodes/littelfuse_tvs_diode_smcj_datasheet.pdf.pdf; ComponentLink2Description: DigiKey Link; ComponentLink2URL: http://digikey.com/product-detail/en/littelfuse-inc/SMCJ150CA/SMCJ150CALFCT-ND/762653; LastUpdated: 9/2/2020 1:28:04 AM; Lifecycle Status: Active; Minimum Order: 1; Mounting Type: Surface Mount; Operating Temperature: -55°C ~ 150°C (TJ); Package / Case: DO-214AB, SMC; Packaging: TapeAndReel; PartId: 8170; Part Status: Active; Price: 0.23; Series: SMCJ; Supplier 1: DigiKey; Supplier Part Number 1: SMCJ150CALFCT-ND; Supplier Device Package: DO-214AB (SMCJ); Voltage - Clamping (Max) @ Ipp: 243V; Voltage - Reverse Standoff (Typ): 150V
footprint DO214AB SMC
pins: 1, 2

## SMCJ150CA-E3/9AT
designator D?
TVS DIODE 150V 243V DO214AB; Manufacturer: Vishay Semiconductor Diodes Division; Bidirectional Channels: 1; Current - Peak Pulse (10/1000µs): 6.2A; Power Line Protection: No; Power - Peak Pulse: 1500W (1.5kW); Type: Zener; Voltage - Breakdown (Min): 167V; Part Number: SMCJ150CA-E3/9AT; Applications: General Purpose; ComponentLink1Description: Datasheet; ComponentLink1URL: http://www.vishay.com/docs/88394/smcj.pdf; ComponentLink2Description: DigiKey Link; ComponentLink2URL: http://digikey.com/product-detail/en/vishay-semiconductor-diodes-division/SMCJ150CA-E3-9AT/SMCJ150CA-E3-9ATGICT-ND/9601123; LastUpdated: 9/2/2020 1:28:01 AM; Lifecycle Status: Active; Minimum Order: 1; Mounting Type: Surface Mount; Operating Temperature: -55°C ~ 150°C (TJ); Package / Case: DO-214AB, SMC; Packaging: TapeAndReel; PartId: 7948; Part Status: Active; Price: 0.23; Series: TransZorb®; Supplier 1: DigiKey; Supplier Part Number 1: SMCJ150CA-E3/9ATGICT-ND; Supplier Device Package: DO-214AB (SMCJ); Voltage - Clamping (Max) @ Ipp: 243V; Voltage - Reverse Standoff (Typ): 150V
footprint DO214AB SMC
pins: 1, 2

## SMCJ150CA-E3/57T
designator D?
TVS DIODE 150V 243V DO214AB; Manufacturer: Vishay Semiconductor Diodes Division; Bidirectional Channels: 1; Current - Peak Pulse (10/1000µs): 6.2A; Power Line Protection: No; Power - Peak Pulse: 1500W (1.5kW); Type: Zener; Voltage - Breakdown (Min): 167V; Part Number: SMCJ150CA-E3/57T; Applications: General Purpose; ComponentLink1Description: Datasheet; ComponentLink1URL: http://www.vishay.com/docs/88394/smcj.pdf; ComponentLink2Description: DigiKey Link; ComponentLink2URL: http://digikey.com/product-detail/en/vishay-semiconductor-diodes-division/SMCJ150CA-E3-57T/SMCJ150CA-E3-57TGICT-ND/3306585; LastUpdated: 9/2/2020 1:28:09 AM; Lifecycle Status: Active; Minimum Order: 1; Mounting Type: Surface Mount; Operating Temperature: -55°C ~ 150°C (TJ); Package / Case: DO-214AB, SMC; Packaging: TapeAndReel; PartId: 8755; Part Status: Active; Price: 0.30; Series: TransZorb®; Supplier 1: DigiKey; Supplier Part Number 1: SMCJ150CA-E3/57TGICT-ND; Supplier Device Package: DO-214AB (SMCJ); Voltage - Clamping (Max) @ Ipp: 243V; Voltage - Reverse Standoff (Typ): 150V
footprint DO214AB SMC
pins: 1, 2

## SMCJ150CA-TP
designator D?
TVS DIODE 150V 243V DO214AB; Manufacturer: Micro Commercial Co; Bidirectional Channels: 1; Current - Peak Pulse (10/1000µs): 6.2A; Power Line Protection: No; Power - Peak Pulse: 1500W (1.5kW); Type: Zener; Voltage - Breakdown (Min): 167V; Part Number: SMCJ150CA-TP; Applications: General Purpose; ComponentLink1Description: Datasheet; ComponentLink1URL: https://www.mccsemi.com/pdf/Products/SMCJ5.0~SMCJ440CA(DO-214AB).pdf; ComponentLink2Description: DigiKey Link; ComponentLink2URL: http://digikey.com/product-detail/en/micro-commercial-co/SMCJ150CA-TP/SMCJ150CA-TPMSCT-ND/1200808; LastUpdated: 9/2/2020 1:28:08 AM; Lifecycle Status: Active; Minimum Order: 1; Mounting Type: Surface Mount; Operating Temperature: -55°C ~ 175°C (TJ); Package / Case: DO-214AB, SMC; Packaging: TapeAndReel; PartId: 8600; Part Status: Active; Price: 0.21; Series: -; Supplier 1: DigiKey; Supplier Part Number 1: SMCJ150CA-TPMSCT-ND; Supplier Device Package: DO-214AB (SMC); Voltage - Clamping (Max) @ Ipp: 243V; Voltage - Reverse Standoff (Typ): 150V
footprint DO214AB SMC
pins: 1, 2

## SMCJ160A
designator D?
TVS DIODE 160V 259V SMC; Manufacturer: Taiwan Semiconductor Corporation; Current - Peak Pulse (10/1000µs): 5.8A; Power Line Protection: No; Power - Peak Pulse: 1500W (1.5kW); Type: Zener; Unidirectional Channels: 1; Voltage - Breakdown (Min): 178V; Part Number: SMCJ160A; Applications: General Purpose; ComponentLink1Description: Datasheet; ComponentLink1URL: https://www.taiwansemi.com/products/datasheet/SMCJ%20SERIES_Q1812.pdf; ComponentLink2Description: DigiKey Link; ComponentLink2URL: http://digikey.com/product-detail/en/taiwan-semiconductor-corporation/SMCJ160A/SMCJ160AFSCT-ND/3907972; LastUpdated: 9/2/2020 1:20:02 AM; Lifecycle Status: Active; Minimum Order: 1; Mounting Type: Surface Mount; Package / Case: DO-214AB, SMC; Packaging: TapeAndReel; PartId: 6632; Part Status: Active; Price: 0.23; Series: -; Supplier 1: DigiKey; Supplier Part Number 1: SMCJ160AFSCT-ND; Supplier Device Package: SMC (DO-214AB); Voltage - Clamping (Max) @ Ipp: 259V; Voltage - Reverse Standoff (Typ): 160V
footprint DO214AB SMC
pins: 1, 2

## SMCJ160A-13
designator D?
TVS DIODE 160V 259V SMC; Manufacturer: Diodes Incorporated; Part Number: SMCJ160A-13; ComponentLink1Description: Datasheet; ComponentLink1URL: https://www.diodes.com/assets/Datasheets/ds19003.pdf; ComponentLink2Description: DigiKey Link; ComponentLink2URL: http://digikey.com/product-detail/en/diodes-incorporated/SMCJ160A-13/SMCJ160ADITR-ND/350243; LastUpdated: 9/2/2020 1:20:05 AM; Lifecycle Status: Active; Minimum Order: 0; Packaging: TapeAndReel; PartId: 6906; Part Status: Active; Price: 0.46; Series: -; Supplier 1: DigiKey; Supplier Part Number 1: SMCJ160ADITR-ND
footprint DO214AB SMC
pins: 1, 2

## SMCJ160A-13-F
designator D?
TVS DIODE 160V 259V SMC; Manufacturer: Diodes Incorporated; Current - Peak Pulse (10/1000µs): 5.8A; Power Line Protection: No; Power - Peak Pulse: 1500W (1.5kW); Type: Zener; Unidirectional Channels: 1; Voltage - Breakdown (Min): 178V; Part Number: SMCJ160A-13-F; Applications: General Purpose; ComponentLink1Description: Datasheet; ComponentLink1URL: https://www.diodes.com/assets/Datasheets/ds19003.pdf; ComponentLink2Description: DigiKey Link; ComponentLink2URL: http://digikey.com/product-detail/en/diodes-incorporated/SMCJ160A-13-F/SMCJ160A-FDICT-ND/816113; LastUpdated: 9/2/2020 1:20:07 AM; Lifecycle Status: Active; Minimum Order: 1; Mounting Type: Surface Mount; Operating Temperature: -55°C ~ 150°C (TJ); Package / Case: DO-214AB, SMC; Packaging: CutTape; PartId: 7177; Part Status: Active; Price: 1.30; Series: -; Supplier 1: DigiKey; Supplier Part Number 1: SMCJ160A-FDICT-ND; Supplier Device Package: SMC; Voltage - Clamping (Max) @ Ipp: 259V; Voltage - Reverse Standoff (Typ): 160V
footprint DO214AB SMC
pins: 1, 2

## SMCJ160A-E3/57T
designator D?
TVS DIODE 160V 259V DO214AB; Manufacturer: Vishay Semiconductor Diodes Division; Current - Peak Pulse (10/1000µs): 5.8A; Power Line Protection: No; Power - Peak Pulse: 1500W (1.5kW); Type: Zener; Unidirectional Channels: 1; Voltage - Breakdown (Min): 178V; Part Number: SMCJ160A-E3/57T; Applications: General Purpose; ComponentLink1Description: Datasheet; ComponentLink1URL: http://www.vishay.com/docs/88394/smcj.pdf; ComponentLink2Description: DigiKey Link; ComponentLink2URL: http://digikey.com/product-detail/en/vishay-semiconductor-diodes-division/SMCJ160A-E3-57T/SMCJ160A-E3-57TGICT-ND/3306586; LastUpdated: 9/2/2020 1:20:02 AM; Lifecycle Status: Active; Minimum Order: 1; Mounting Type: Surface Mount; Operating Temperature: -55°C ~ 150°C (TJ); Package / Case: DO-214AB, SMC; Packaging: TapeAndReel; PartId: 6571; Part Status: Active; Price: 0.25; Series: TransZorb®; Supplier 1: DigiKey; Supplier Part Number 1: SMCJ160A-E3/57TGICT-ND; Supplier Device Package: DO-214AB (SMCJ); Voltage - Clamping (Max) @ Ipp: 259V; Voltage - Reverse Standoff (Typ): 160V
footprint DO214AB SMC
pins: 1, 2